# EAGLE library part MSP430F1611 (library powercube)
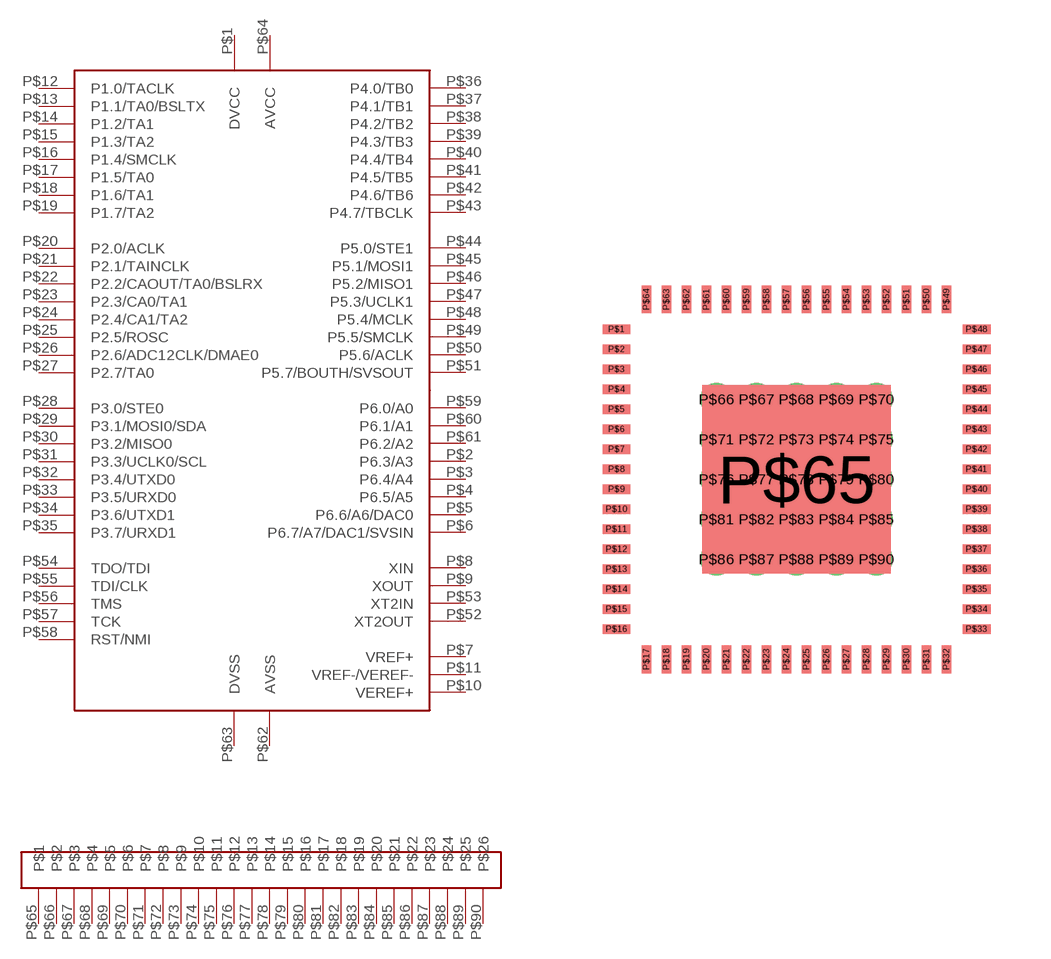
[diagram p10: symbol with the pads of MSP430F1611; footprint MSP430F1611]

Designator prefix -; gates G$1=MSP430F1611 G$2=GND_ATTACH

## MSP430F1611  [MSP430F1611]
P$1  G$1:DVCC
P$2  G$1:P6.3/A3
P$3  G$1:P6.4/A4
P$4  G$1:P6.5/A5
P$5  G$1:P6.6/A6/DAC0
P$6  G$1:P6.7/A7/DAC1/SVSIN
P$7  G$1:VREF+
P$8  G$1:XIN
P$9  G$1:XOUT
P$10  G$1:VEREF+
P$11  G$1:VREF-/VEREF-
P$12  G$1:P1.0/TACLK
P$13  G$1:P1.1/TA0/BSLTX
P$14  G$1:P1.2/TA1
P$15  G$1:P1.3/TA2
P$16  G$1:P1.4/SMCLK
P$17  G$1:P1.5/TA0
P$18  G$1:P1.6/TA1
P$19  G$1:P1.7/TA2
P$20  G$1:P2.0/ACLK
P$21  G$1:P2.1/TAINCLK
P$22  G$1:P2.2/CAOUT/TA0/BSLRX
P$23  G$1:P2.3/CA0/TA1
P$24  G$1:P2.4/CA1/TA2
P$25  G$1:P2.5/ROSC
P$26  G$1:P2.6/ADC12CLK/DMAE0
P$27  G$1:P2.7/TA0
P$28  G$1:P3.0/STE0
P$29  G$1:P3.1/MOSI0/SDA
P$30  G$1:P3.2/MISO0
P$31  G$1:P3.3/UCLK0/SCL
P$32  G$1:P3.4/UTXD0
P$33  G$1:P3.5/URXD0
P$34  G$1:P3.6/UTXD1
P$35  G$1:P3.7/URXD1
P$36  G$1:P4.0/TB0
P$37  G$1:P4.1/TB1
P$38  G$1:P4.2/TB2
P$39  G$1:P4.3/TB3
P$40  G$1:P4.4/TB4
P$41  G$1:P4.5/TB5
P$42  G$1:P4.6/TB6
P$43  G$1:P4.7/TBCLK
P$44  G$1:P5.0/STE1
P$45  G$1:P5.1/MOSI1
P$46  G$1:P5.2/MISO1
P$47  G$1:P5.3/UCLK1
P$48  G$1:P5.4/MCLK
P$49  G$1:P5.5/SMCLK
P$50  G$1:P5.6/ACLK
P$51  G$1:P5.7/BOUTH/SVSOUT
P$52  G$1:XT2OUT
P$53  G$1:XT2IN
P$54  G$1:TDO/TDI
P$55  G$1:TDI/CLK
P$56  G$1:TMS
P$57  G$1:TCK
P$58  G$1:RST/NMI
P$59  G$1:P6.0/A0
P$60  G$1:P6.1/A1
P$61  G$1:P6.2/A2
P$62  G$1:AVSS
P$63  G$1:DVSS
P$64  G$1:AVCC
P$65  G$2:P$1
P$66  G$2:P$2
P$67  G$2:P$3
P$68  G$2:P$4
P$69  G$2:P$5
P$70  G$2:P$6
P$71  G$2:P$7
P$72  G$2:P$8
P$73  G$2:P$9
P$74  G$2:P$10
P$75  G$2:P$11
P$76  G$2:P$12
P$77  G$2:P$13
P$78  G$2:P$14
P$79  G$2:P$15
P$80  G$2:P$16
P$81  G$2:P$17
P$82  G$2:P$18
P$83  G$2:P$19
P$84  G$2:P$20
P$85  G$2:P$21
P$86  G$2:P$22
P$87  G$2:P$23
P$88  G$2:P$24
P$89  G$2:P$25
P$90  G$2:P$26

## Footprint MSP430F1611 (pad centres in mm)
smd 0.7 x 0.23: P$1 -4.5,3.75; P$2 -4.5,3.25; P$3 -4.5,2.75; P$4 -4.5,2.25; P$5 -4.5,1.75; P$6 -4.5,1.25; P$7 -4.5,0.75; P$8 -4.5,0.25; P$9 -4.5,-0.25; P$10 -4.5,-0.75; P$11 -4.5,-1.25; P$12 -4.5,-1.75; P$13 -4.5,-2.25; P$14 -4.5,-2.75; P$15 -4.5,-3.25; P$16 -4.5,-3.75; P$33 4.5,-3.75; P$34 4.5,-3.25; P$35 4.5,-2.75; P$36 4.5,-2.25; P$37 4.5,-1.75; P$38 4.5,-1.25; P$39 4.5,-0.75; P$40 4.5,-0.25; P$41 4.5,0.25; P$42 4.5,0.75; P$43 4.5,1.25; P$44 4.5,1.75; P$45 4.5,2.25; P$46 4.5,2.75; P$47 4.5,3.25; P$48 4.5,3.75
smd 0.23 x 0.7: P$17 -3.75,-4.5; P$18 -3.25,-4.5; P$19 -2.75,-4.5; P$20 -2.25,-4.5; P$21 -1.75,-4.5; P$22 -1.25,-4.5; P$23 -0.75,-4.5; P$24 -0.25,-4.5; P$25 0.25,-4.5; P$26 0.75,-4.5; P$27 1.25,-4.5; P$28 1.75,-4.5; P$29 2.25,-4.5; P$30 2.75,-4.5; P$31 3.25,-4.5; P$32 3.75,-4.5; P$49 3.75,4.5; P$50 3.25,4.5; P$51 2.75,4.5; P$52 2.25,4.5; P$53 1.75,4.5; P$54 1.25,4.5; P$55 0.75,4.5; P$56 0.25,4.5; P$57 -0.25,4.5; P$58 -0.75,4.5; P$59 -1.25,4.5; P$60 -1.75,4.5; P$61 -2.25,4.5; P$62 -2.75,4.5; P$63 -3.25,4.5; P$64 -3.75,4.5
smd 4.7 x 4.7: P$65 0,0
drill 0.3: P$66 -2,2; P$67 -1,2; P$68 0,2; P$69 1,2; P$70 2,2; P$71 -2,1; P$72 -1,1; P$73 0,1; P$74 1,1; P$75 2,1; P$76 -2,0; P$77 -1,0; P$78 0,0; P$79 1,0; P$80 2,0; P$81 -2,-1; P$82 -1,-1; P$83 0,-1; P$84 1,-1; P$85 2,-1; P$86 -2,-2; P$87 -1,-2; P$88 0,-2; P$89 1,-2; P$90 2,-2